# Altium schematic symbol library SCH - PASSIVES - VARIABLE CAPACITOR.SCHLIB: 1 symbol
Pins are listed as number, name and electrical type; pins without a type are passive.

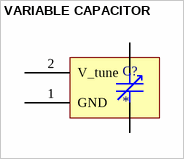
[diagram p0: symbol VARIABLE CAPACITOR]

## VARIABLE CAPACITOR
designator C?
pins: 1 GND, 2 V_tune, 3, 4